# Altium footprint library Other.PcbLib: 8 footprints
Each footprint in its own frame and in the unit in brackets; x right, y up, seen from the top. Pads: shape width x height; smd on the part's side, far side on the other; paste and mask are expansions set on the pad; w line width, h text height; cw(c..) or ccw(c..) is an arc to the next point about the centre after c.
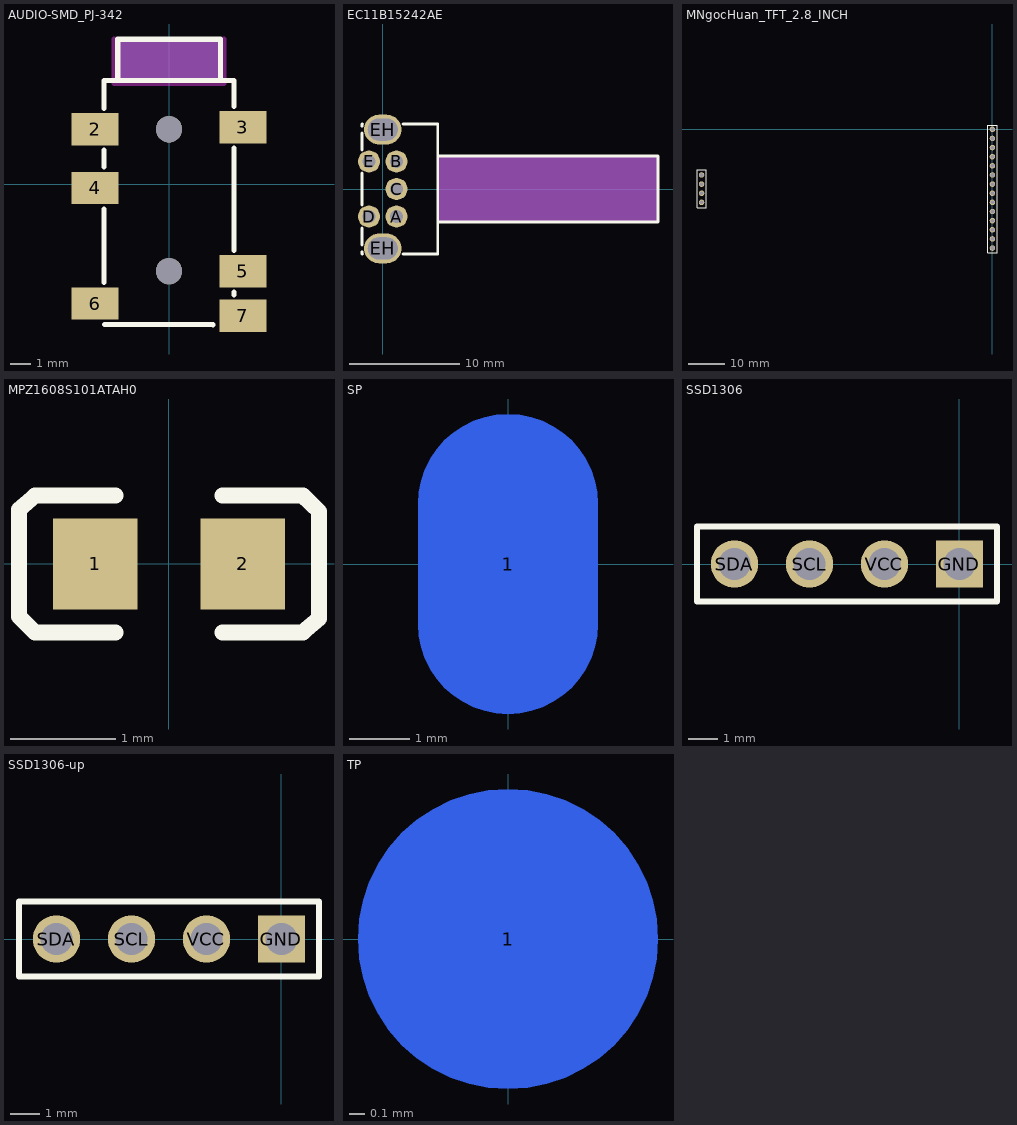
[diagram p0: the footprints below, top view; thin cyan lines are the x and y axes]

## AUDIO-SMD_PJ-342 [mm] "3.5mm Headphone Jack 0.5A 30V Surface Mount"
pads (8):
  rect 2.3x1.6 smd paste+0 mask+0.051: 2(-3.65,2.711) 3(3.65,2.811) 4(-3.65,-0.189) 5(3.65,-4.289) 6(-3.65,-5.889) 7(3.65,-6.489)
  round 1.3 hole 1.3 unplated paste-2539.97: ""(0,-4.289) ""(0,2.711)
Top Overlay:
  lines w0.254: -3.2,-4.857 -3.2,-1.22 ; -3.2,0.843 -3.2,1.68 ; -3.2,3.743 -3.2,5.111 3.2,5.111 3.2,3.843 ; -3.185,-6.921 2.174,-6.921 2.174,-6.934 ; -2.54,5.131 -2.53,5.207 -2.53,7.151 2.54,7.151 2.54,5.111 ; 3.2,-5.457 3.2,-5.32 ; 3.2,-3.257 3.2,1.78
Keep-Out Layer:
  lines w0.254: -2.7,7.162 -2.7,5.062 -2.7,4.962 2.6,4.962 2.7,4.962 2.7,7.162
Mechanical 15:
  circle w0.55: c0,2.711 r0.275
  circle w0.55: c0,-4.289 r0.275
  region: -2.499,7.157 2.506,7.157 2.506,5.134 -2.508,5.134 -2.508,5.162
3D body "PJ311D_WOPos.STEP": height 4.8, standoff -0.7, extent -4.233,-7.429 4.267,6.871

## EC11B15242AE [mm] "Through Hole DIP Switches/SIP Switches RoHS"
pads (7):
  round 2 hole 1.2 paste-2539.97 mask+0.051: A(1.25,-2.5) B(1.25,2.5) C(1.25,0) D(-1.25,-2.5) E(-1.25,2.5)
  oval 3.4x2.7 hole 2 slot 2.7 at 0 deg paste-2539.97 mask+0.051: EH(0,-5.4) EH(0,5.4)
Top Overlay:
  lines w0.254: -1.9,-5.702 -1.9,-5.9 -1.85,-5.9 ; -1.9,-5.098 -1.9,-3.545 ; -1.9,-1.455 -1.9,1.455 ; -1.9,3.545 -1.9,5.098 ; -1.9,5.702 -1.9,5.9 -1.85,5.9 ; 1.85,-5.9 5,-5.9 5,5.9 1.85,5.9 ; 5,-3 25,-3 25,3 5,3
Mechanical 15:
  region: 5,3 25,3 25,-3 5,-3
3D body "EC11B-SW-Horiz-15F-green.step": height 13.75, standoff -3.5, extent -1.958,-7.061 20.042,6.907

## MNgocHuan_TFT_2.8_INCH [mm]
height 8.5
pads (18):
  round 1.52 hole 1.02: 1(0,0) 2(0,-2.54) 3(0,-5.08) 4(0,-7.62) 5(0,-10.16) 6(0,-12.7) 7(0,-15.24) 8(0,-17.78) 9(0,-20.32) 10(0,-22.86) 11(0,-25.4) 12(0,-27.94) 13(0,-30.48) 14(0,-33.02) 15(-80.899,-20.32) 16(-80.899,-17.78) 17(-80.899,-15.24) 18(-80.899,-12.7)
Top Overlay:
  lines w0.2: -82.169,-21.84 -82.169,-11.303 -79.629,-11.303 -79.629,-21.84 -82.169,-21.84 ; -1.27,-34.341 -1.27,1.143 1.27,1.143 1.27,-34.341 -1.27,-34.341
3D body "TFT LCD 2.8 inch ILI9341 touch.step": height 8.45, standoff -6, extent -83.947,-41.497 2.028,8.477

## MPZ1608S101ATAH0 [mm]
pads (2):
  rect 0.8x0.864 smd paste-100 mask+0.051: 1(-0.7,0) 2(0.7,0)
Top Overlay:
  lines w0.152: -1.272,-0.65 -0.51,-0.65 ; -1.272,0.65 -0.51,0.65 ; -1.27,-0.651 -1.424,-0.499 -1.424,0.517 -1.27,0.65 ; 0.51,-0.65 1.272,-0.65 ; 0.51,0.65 1.272,0.65 ; 1.27,-0.65 1.424,-0.518 1.424,0.499 1.27,0.65
Top Paste:
  region: -0.252,0.143 -0.252,-0.134 -0.526,-0.427 -1.029,-0.427 -1.093,-0.363 -1.093,0.373 -1.029,0.437 -0.526,0.437
  region: 0.264,0.154 0.264,-0.122 0.538,-0.416 1.042,-0.416 1.106,-0.352 1.106,0.384 1.042,0.448 0.538,0.448
Mechanical 15:
  lines w0.003: 0.799,0.044 0.8,0.044

## SP [mm]
pads (1):
  oval 3x5 smd far side paste+0 mask+0.051: 1(0,0)

## SSD1306 [mm]
pads (4):
  rect 1.6x1.6 hole 1.1: GND(0,0)
  round 1.6 hole 1.1: SCL(-5.08,0) SDA(-7.62,0) VCC(-2.54,0)
Top Overlay:
  lines w0.2: -8.89,-1.27 1.27,-1.27 1.27,1.27 -8.89,1.27 -8.89,-1.27
3D body "Pantalla OLED 0.96'' 128x64.stp": height 5.54, standoff -5.46, extent -17.934,-1.448 10.466,25.952

## SSD1306-up [mm]
pads (4):
  rect 1.6x1.6 hole 1.1: GND(0,0)
  round 1.6 hole 1.1: SCL(-5.08,0) SDA(-7.62,0) VCC(-2.54,0)
Top Overlay:
  lines w0.2: -8.89,-1.27 1.27,-1.27 1.27,1.27 -8.89,1.27 -8.89,-1.27
3D body "Pantalla OLED 0.96'' 128x64.stp": height 8.62, standoff -18.78, extent -17.934,4.252 10.466,15.252

## TP [mm]
pads (1):
  round 2 smd far side paste+0 mask+0.051: 1(0,0)